# EAGLE library part BME280 (library bosch)
PRESSURE HUMIDITY TEMP GAS SENS
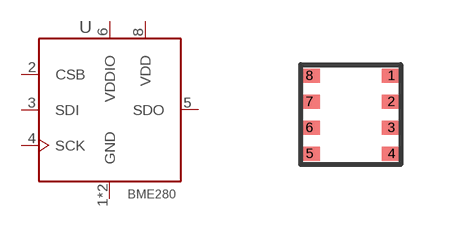
[diagram p0: symbol with the pads of BME280; footprint BME280]

Designator prefix U

## BME280 (DIGIKEY: 828-1063-1-ND; MFR: Bosch Sensortec; MPN: BME280; P1I: o)  [BME280]
1  GND
2  CSB
3  SDI
4  SCK
5  SDO
6  VDDIO
7  GND
8  VDD

## Footprint BME280 (pad centres in mm)
smd 0.5 x 0.35: 1 1.025,0.975; 2 1.025,0.325; 3 1.025,-0.325; 4 1.025,-0.975; 5 -1.025,-0.975; 6 -1.025,-0.325; 7 -1.025,0.325; 8 -1.025,0.975